# Altium schematic symbol library BATT.SchLib: 1 symbol
Pins are listed as number, name and electrical type; pins without a type are passive.

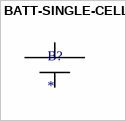
[diagram p0: symbol BATT-SINGLE-CELL]

## BATT-SINGLE-CELL
designator B?
pins: 0 -, 1 +